# EAGLE library part 61003021821 (library Eagle_BOARD-TO-BOARD_CONNECTORS (rev18b))
WR-PHD 2.54mm SMT Socket Header=>Code : Con_BTB_SHD_2.54_1_SMT_610x0421821(packageing:x = 0: Tube x = 3: Tape & Reel with Cap; 600 pcs/Reel) <http://katalog.we-online.de/media/images/eican/Con_BTB_SHD_2.54_1_SMT_6100xx21821_pf2.jpg> 6100xx21821 Details see: http://katalog.we-online.de/en/em/PHD_2_54_SMT_DUAL_SOCKET_HEADER_6100XX21821 6103xx21821 2014 (C) Würth Elektronik
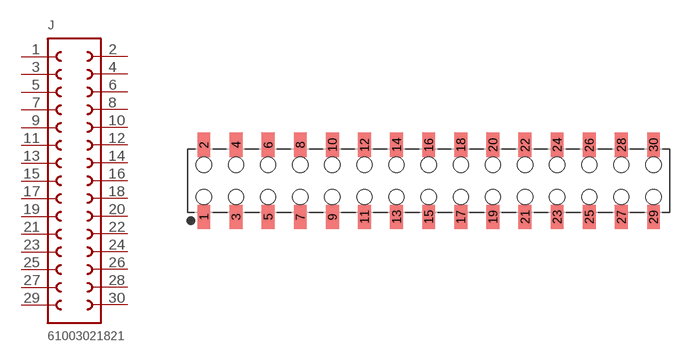
[diagram p212: symbol with the pads of 61003021821; footprint 61003021821]

Designator prefix J

## 61003021821  [61003021821]
1  1  pas
2  30  pas
3  2  pas
4  29  pas
5  3  pas
6  28  pas
7  4  pas
8  27  pas
9  5  pas
10  26  pas
11  6  pas
12  25  pas
13  7  pas
14  24  pas
15  8  pas
16  23  pas
17  9  pas
18  22  pas
19  10  pas
20  21  pas
21  11  pas
22  20  pas
23  12  pas
24  19  pas
25  13  pas
26  18  pas
27  14  pas
28  17  pas
29  15  pas
30  16  pas

## Footprint 61003021821 (pad centres in mm)
WR-PHD 2.54mm Dual SMT Socket Header, 30 Pins
smd 1.02 x 1.9: 1 -17.78,-2.85; 2 -17.78,2.85; 3 -15.24,-2.85; 4 -15.24,2.85; 5 -12.7,-2.85; 6 -12.7,2.85; 7 -10.16,-2.85; 8 -10.16,2.85; 9 -7.62,-2.85; 10 -7.62,2.85; 11 -5.08,-2.85; 12 -5.08,2.85; 13 -2.54,-2.85; 14 -2.54,2.85; 15 0,-2.85; 16 0,2.85; 17 2.54,-2.85; 18 2.54,2.85; 19 5.08,-2.85; 20 5.08,2.85; 21 7.62,-2.85; 22 7.62,2.85; 23 10.16,-2.85; 24 10.16,2.85; 25 12.7,-2.85; 26 12.7,2.85; 27 15.24,-2.85; 28 15.24,2.85; 29 17.78,-2.85; 30 17.78,2.85
hole 1.2 at -17.78,-1.27
hole 1.2 at -15.24,-1.27
hole 1.2 at -15.24,1.27
hole 1.2 at -17.78,1.27
hole 1.2 at -12.7,-1.27
hole 1.2 at -12.7,1.27
hole 1.2 at -10.16,1.27
hole 1.2 at -10.16,-1.27
hole 1.2 at -7.62,-1.27
hole 1.2 at -7.62,1.27
hole 1.2 at -5.08,-1.27
hole 1.2 at -5.08,1.27
hole 1.2 at -2.54,1.27
hole 1.2 at -2.54,-1.27
hole 1.2 at 0,1.27
hole 1.2 at 0,-1.27
hole 1.2 at 2.54,-1.27
hole 1.2 at 2.54,1.27
hole 1.2 at 5.08,-1.27
hole 1.2 at 5.08,1.27
hole 1.2 at 7.62,1.27
hole 1.2 at 7.62,-1.27
hole 1.2 at 10.16,-1.27
hole 1.2 at 10.16,1.27
hole 1.2 at 12.7,-1.27
hole 1.2 at 12.7,1.27
hole 1.2 at 15.24,-1.27
hole 1.2 at 15.24,1.27
hole 1.2 at 17.78,-1.27
hole 1.2 at 17.78,1.27